# Altium schematic symbol library Schlib1.SchLib: 3 symbols
Pins are listed as number, name and electrical type; pins without a type are passive.

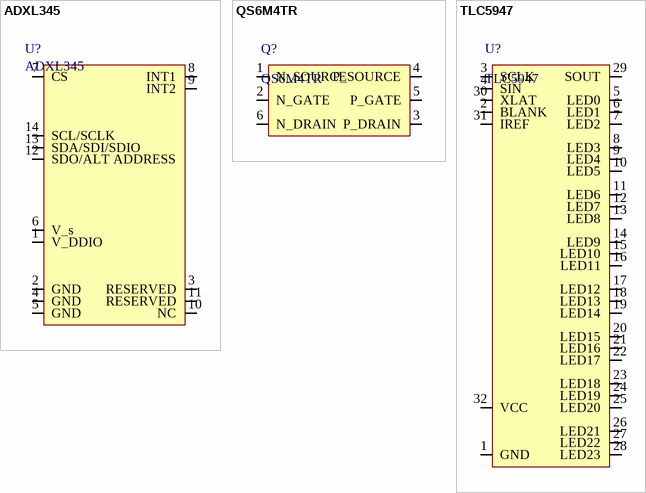
[diagram p0: symbols ADXL345 to TLC5947]

## ADXL345
designator U?
pins: 1 V_DDIO, 2 GND, 3 RESERVED, 4 GND, 5 GND, 6 V_s, 7 CS, 8 INT1, 9 INT2, 10 NC, 11 RESERVED, 12 SDO/ALT ADDRESS, 13 SDA/SDI/SDIO, 14 SCL/SCLK

## QS6M4TR
designator Q?
pins: 1 N_SOURCE, 2 N_GATE, 3 P_DRAIN, 4 P_SOURCE, 5 P_GATE, 6 N_DRAIN

## TLC5947
designator U?
pins: 1 GND, 2 BLANK, 3 SCLK, 4 SIN, 5 LED0, 6 LED1, 7 LED2, 8 LED3, 9 LED4, 10 LED5, 11 LED6, 12 LED7, 13 LED8, 14 LED9, 15 LED10, 16 LED11, 17 LED12, 18 LED13, 19 LED14, 20 LED15, 21 LED16, 22 LED17, 23 LED18, 24 LED19, 25 LED20, 26 LED21, 27 LED22, 28 LED23, 29 SOUT, 30 XLAT, 31 IREF, 32 VCC